# Altium footprint library SparkFun-IC-Amplifiers.PCBLIB: 14 footprints
Each footprint in its own frame and in the unit in brackets; x right, y up, seen from the top. Pads: shape width x height; smd on the part's side, far side on the other; paste and mask are expansions set on the pad; w line width, h text height; cw(c..) or ccw(c..) is an arc to the next point about the centre after c.
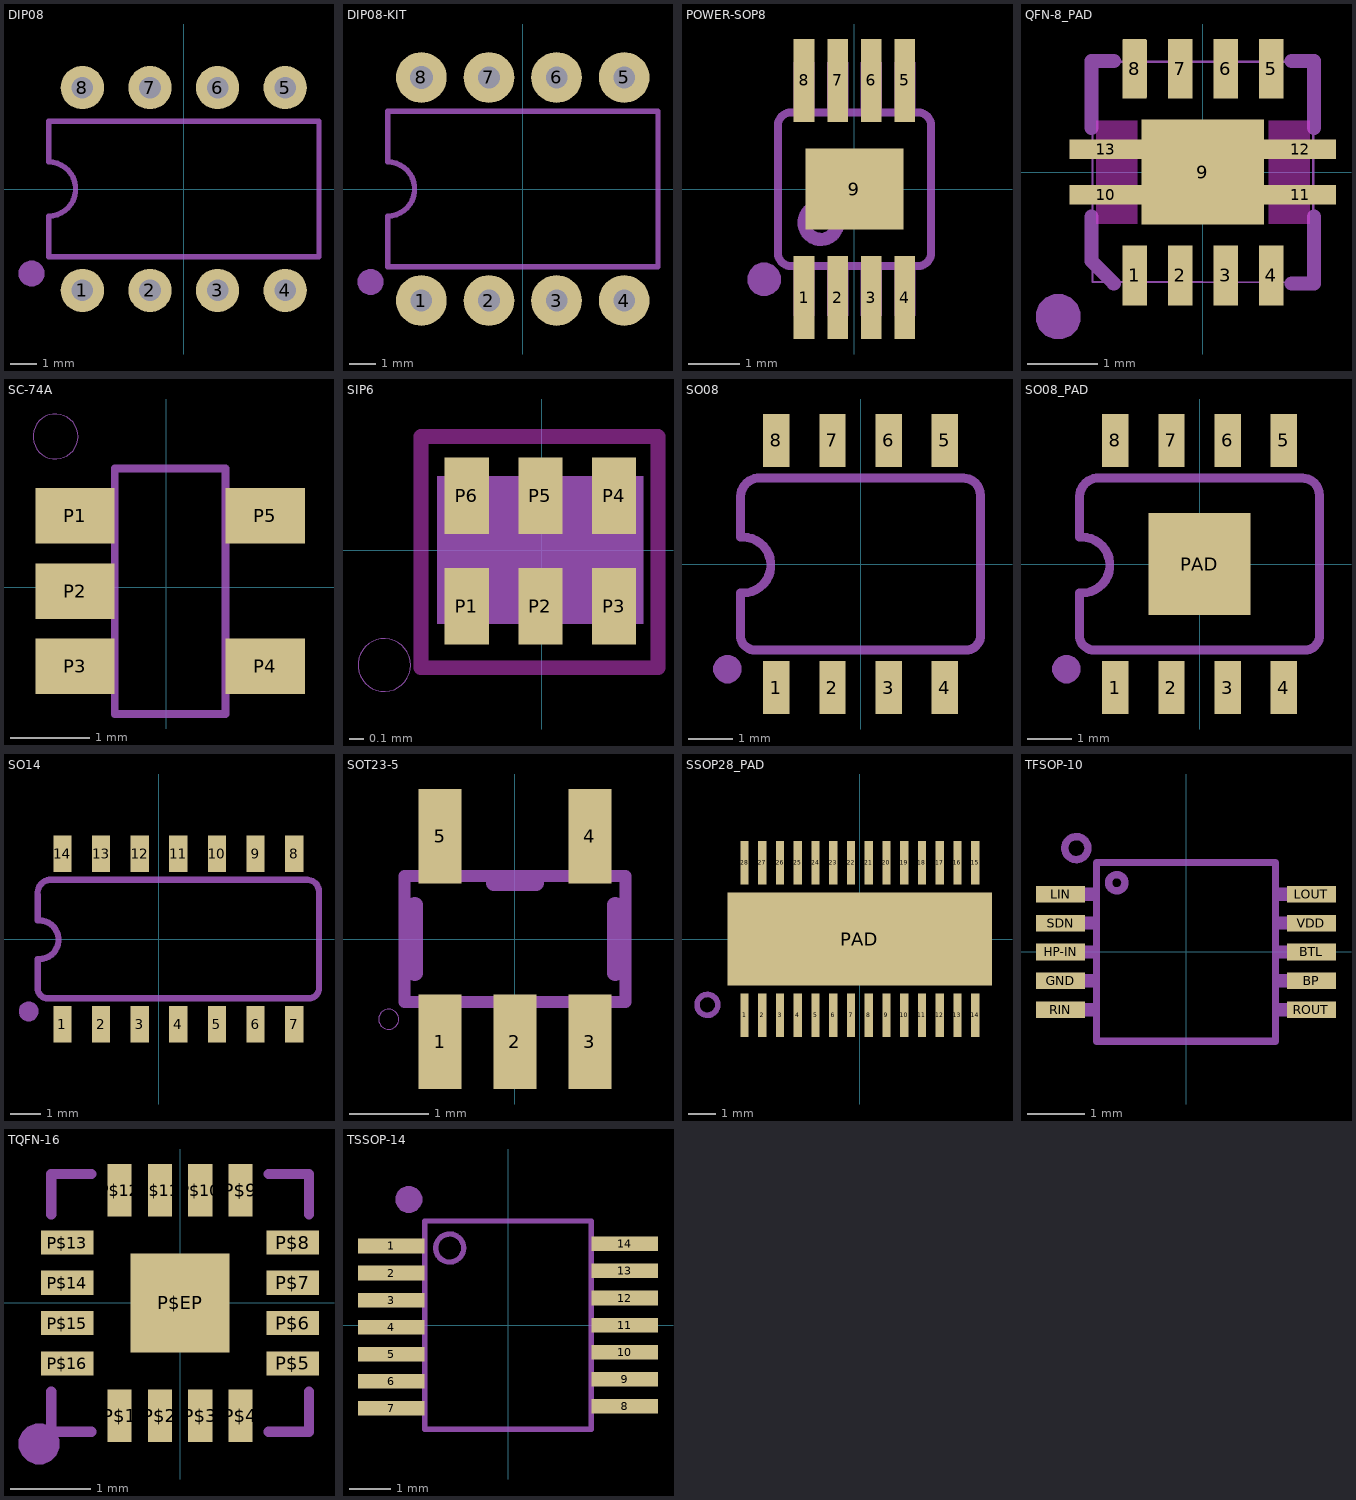
[diagram p0: the footprints below, top view; thin cyan lines are the x and y axes]

## DIP08 [mil]
pads (8):
  round 64 hole 32: 1(-150,-150) 2(-50,-150) 3(50,-150) 4(150,-150) 5(150,150) 6(50,150) 7(-50,150) 8(-150,150)
tPlace:
  region: -243.75,-125 -243.75,-121.27 -240.9,-114.38 -235.62,-109.1 -228.73,-106.25 -225,-106.25 -221.27,-106.25 -214.38,-109.1 -209.1,-114.38 -206.25,-121.27 -206.25,-125 -206.25,-128.73 -209.1,-135.62 -214.38,-140.9 -221.27,-143.75 -225,-143.75 -228.73,-143.75 -235.62,-140.9 -240.9,-135.62 -243.75,-128.73 -243.75,-125
  lines w8: -200,-100 200,-100 200,100 -200,100 -200,40 cw(c-200,0) -200,-40 -200,-100

## DIP08-KIT [mil]
pads (8):
  round 75 hole 32: 1(-150,-165) 2(-50,-165) 3(50,-165) 4(150,-165) 5(150,165) 6(50,165) 7(-50,165)
  round 75 hole 34: 8(-150,165)
Top Solder:
  circle w0: c-150,165 r17
  circle w0: c-50,165 r17
  circle w0: c50,165 r17
  circle w0: c150,165 r17
  circle w0: c-150,-165 r17
  circle w0: c-50,-165 r17
  circle w0: c50,-165 r17
  circle w0: c150,-165 r17
Bottom Solder:
  circle w0: c-150,165 r42
  circle w0: c-50,165 r42
  circle w0: c50,165 r42
  circle w0: c150,165 r42
  circle w0: c-150,-165 r42
  circle w0: c-50,-165 r42
  circle w0: c50,-165 r42
  circle w0: c150,-165 r42
tPlace:
  region: -243.75,-137.5 -243.75,-133.77 -240.9,-126.88 -235.62,-121.6 -228.73,-118.75 -225,-118.75 -221.27,-118.75 -214.38,-121.6 -209.1,-126.88 -206.25,-133.77 -206.25,-137.5 -206.25,-141.23 -209.1,-148.12 -214.38,-153.4 -221.27,-156.25 -225,-156.25 -228.73,-156.25 -235.62,-153.4 -240.9,-148.12 -243.75,-141.23 -243.75,-137.5
  lines w8: -200,-115 -200,-40 ccw(c-200,0) -200,40 -200,115 200,115 200,-115 -200,-115

## POWER-SOP8 [mm]
pads (9):
  rect 0.4x1.6 smd: 1(-0.975,-2.1) 2(-0.325,-2.1) 3(0.325,-2.1) 4(0.975,-2.1) 5(0.975,2.1) 6(0.325,2.1) 7(-0.325,2.1) 8(-0.975,2.1)
  rect 1.89x1.57 smd: 9(0,0)
tDocu:
  region: -1.175,-2.45 -1.175,-1.55 -0.775,-1.55 -0.775,-2.45
  region: -0.525,-2.45 -0.525,-1.55 -0.125,-1.55 -0.125,-2.45
  region: 0.125,-2.45 0.125,-1.55 0.525,-1.55 0.525,-2.45
  region: 0.775,-2.45 0.775,-1.55 1.175,-1.55 1.175,-2.45
  region: 0.775,1.55 0.775,2.45 1.175,2.45 1.175,1.55
  region: 0.125,1.55 0.125,2.45 0.525,2.45 0.525,1.55
  region: -0.525,1.55 -0.525,2.45 -0.125,2.45 -0.125,1.55
  region: -1.175,1.55 -1.175,2.45 -0.775,2.45 -0.775,1.55
tPlace:
  circle w0.254: c-0.65,-0.65 r0.325
  region: -1.429,-1.746 -1.429,-1.683 -1.477,-1.566 -1.566,-1.477 -1.683,-1.429 -1.746,-1.429 -1.809,-1.429 -1.926,-1.477 -2.015,-1.566 -2.064,-1.683 -2.064,-1.746 -2.064,-1.809 -2.015,-1.926 -1.926,-2.015 -1.809,-2.064 -1.746,-2.064 -1.683,-2.064 -1.566,-2.015 -1.477,-1.926 -1.429,-1.809 -1.429,-1.746
  lines w0.152: -1.48,-1.24 ccw(c-1.23,-1.24) -1.23,-1.49 ; -1.48,-1.23 -1.48,1.23 cw(c-1.23,1.23) -1.23,1.48 ; -1.22,-1.49 1.24,-1.49 ; -1.22,1.48 1.24,1.48 ; 1.23,-1.49 ccw(c1.23,-1.24) 1.48,-1.24 1.48,1.23 ccw(c1.23,1.23) 1.23,1.48

## QFN-8_PAD [mm]
pads (13):
  rect 0.35x0.85 smd: 1(-0.975,-1.475) 2(-0.325,-1.475) 3(0.325,-1.475) 4(0.975,-1.475) 5(0.975,1.475) 6(0.325,1.475) 7(-0.325,1.475)
  rrect10% 0.35x0.85 smd: 8(-0.975,1.475)
  rect 1.75x1.5 smd paste+0: 9(0,0)
  rect 1.025x0.28 smd paste+0 mask+0: 10(-1.388,-0.325) 11(1.388,-0.325) 12(1.388,0.325) 13(-1.388,0.325)
Top keep-out:
  region: -1.524,0.737 -0.94,0.737 -0.94,-0.737 -1.524,-0.737
  region: 0.94,0.737 1.524,0.737 1.524,-0.737 0.94,-0.737
Top Paste:
  region: 0.381,0.381 0.381,-0.381 -0.381,-0.381 -0.381,0.381
tDocu:
  lines w0.03: -1.575,-1.565 1.575,-1.575 1.575,1.575 -1.575,1.575 -1.575,-1.565
tPlace:
  region: -1.746,-2.064 -1.746,-2.001 -1.795,-1.884 -1.884,-1.795 -2.001,-1.746 -2.064,-1.746 -2.127,-1.746 -2.244,-1.795 -2.333,-1.884 -2.381,-2.001 -2.381,-2.064 -2.381,-2.127 -2.333,-2.244 -2.244,-2.333 -2.127,-2.381 -2.064,-2.381 -2.001,-2.381 -1.884,-2.333 -1.795,-2.244 -1.746,-2.127 -1.746,-2.064
  lines w0.203: -1.587,-0.635 -1.587,-1.27 -1.27,-1.587 ; -1.587,0.635 -1.587,1.587 -1.27,1.587 ; 1.27,-1.587 1.587,-1.587 1.587,-0.635 ; 1.27,1.587 1.587,1.587 1.587,0.635

## SC-74A [mm]
pads (5):
  rect 1x0.7 smd: P1(-1.151,0.903) P2(-1.151,-0.047) P3(-1.151,-0.997) P4(1.249,-0.997) P5(1.249,0.903)
tDocu:
  lines w0.1: -0.651,-1.597 0.749,-1.597 0.749,1.503 -0.651,1.503 -0.651,-1.597
tPlace:
  circle w0: c-1.397,1.905 r0.284

## SIP6 [mil]
pads (6):
  rect 11.81x20.47 smd paste+0 mask+0: P1(-20,-15) P2(-0.32,-15) P3(19.37,-15) P4(19.37,14.53) P5(-0.32,14.53) P6(-20,14.53)
Top keep-out:
  lines w3.94: -32.28,-31.5 31.1,-31.5 31.1,30.32 -32.28,30.32 -32.28,-31.5
Top Paste:
  region: -24.72,6.26 -24.72,23.58 -15.28,23.58 -15.28,6.26
  region: -5.04,6.26 -5.04,23.58 4.41,23.58 4.41,6.26
  region: 14.65,6.26 14.65,23.58 24.09,23.58 24.09,6.26
  region: -24.72,-23.66 -24.72,-6.34 -15.28,-6.34 -15.28,-23.66
  region: -5.04,-23.66 -5.04,-6.34 4.41,-6.34 4.41,-23.66
  region: 14.65,-23.66 14.65,-6.34 24.09,-6.34 24.09,-23.66
Top Solder:
  region: -27.87,-26.81 -27.87,-2.4 -12.13,-2.4 -12.13,-26.81
  region: -8.19,-26.81 -8.19,-2.4 7.56,-2.4 7.56,-26.81
  region: 11.5,-26.81 11.5,-2.4 27.24,-2.4 27.24,-26.81
  region: 11.5,1.54 11.5,25.94 27.24,25.94 27.24,1.54
  region: -8.19,1.54 -8.19,25.94 7.56,25.94 7.56,1.54
  region: -27.87,1.54 -27.87,25.94 -12.13,25.94 -12.13,1.54
tDocu:
  region: -27.95,-19.69 -27.95,19.69 27.17,19.69 27.17,-19.69
tPlace:
  circle w0: c-42.05,-30.75 r7.04

## SO08 [mm]
pads (8):
  rect 0.6x1.2 smd: 1(-1.905,-2.8) 2(-0.635,-2.8) 3(0.635,-2.8) 4(1.905,-2.8) 5(1.905,2.8) 6(0.635,2.8) 7(-0.635,2.8) 8(-1.905,2.8)
tDocu:
  region: -2.159,-3.302 -2.159,-2.273 -1.651,-2.273 -1.651,-3.302
  region: -0.889,-3.302 -0.889,-2.273 -0.381,-2.273 -0.381,-3.302
  region: 0.381,-3.302 0.381,-2.273 0.889,-2.273 0.889,-3.302
  region: 1.651,-3.302 1.651,-2.273 2.159,-2.273 2.159,-3.302
  region: -0.889,2.286 -0.889,3.302 -0.381,3.302 -0.381,2.286
  region: 0.381,2.286 0.381,3.302 0.889,3.302 0.889,2.286
  region: 1.651,2.286 1.651,3.302 2.159,3.302 2.159,2.286
  region: -2.159,2.286 -2.159,3.302 -1.651,3.302 -1.651,2.286
tPlace:
  region: -2.699,-2.381 -2.699,-2.318 -2.747,-2.201 -2.836,-2.112 -2.953,-2.064 -3.016,-2.064 -3.079,-2.064 -3.196,-2.112 -3.285,-2.201 -3.334,-2.318 -3.334,-2.381 -3.334,-2.444 -3.285,-2.561 -3.196,-2.65 -3.079,-2.699 -3.016,-2.699 -2.953,-2.699 -2.836,-2.65 -2.747,-2.561 -2.699,-2.444 -2.699,-2.381
  lines w0.203: -2.718,-0.66 -2.718,-1.665 ccw(c-2.387,-1.616) -2.337,-1.946 2.437,-1.946 ccw(c2.387,-1.615) 2.718,-1.565 2.718,1.565 ccw(c2.337,1.566) 2.337,1.946 -2.337,1.946 ccw(c-2.287,1.515) -2.718,1.465 ; -2.718,0.61 -2.718,1.453 ; -2.667,-0.66 ccw(c-2.667,-0.025) -2.667,0.61

## SO08_PAD [mil]
pads (9):
  rect 23.62x47.24 smd: 1(-75,-110.24) 2(-25,-110.24) 3(25,-110.24) 4(75,-110.24) 5(75,110.24) 6(25,110.24) 7(-25,110.24) 8(-75,110.24)
  rect 91x91 smd: PAD(0,0)
tDocu:
  region: -85,-130 -85,-89.5 -65,-89.5 -65,-130
  region: -35,-130 -35,-89.5 -15,-89.5 -15,-130
  region: 15,-130 15,-89.5 35,-89.5 35,-130
  region: 65,-130 65,-89.5 85,-89.5 85,-130
  region: -35,90 -35,130 -15,130 -15,90
  region: 15,90 15,130 35,130 35,90
  region: 65,90 65,130 85,130 85,90
  region: -85,90 -85,130 -65,130 -65,90
tPlace:
  region: -106.25,-93.75 -106.25,-91.26 -108.15,-86.67 -111.67,-83.15 -116.26,-81.25 -118.75,-81.25 -121.24,-81.25 -125.83,-83.15 -129.35,-86.67 -131.25,-91.26 -131.25,-93.75 -131.25,-96.24 -129.35,-100.83 -125.83,-104.35 -121.24,-106.25 -118.75,-106.25 -116.26,-106.25 -111.67,-104.35 -108.15,-100.83 -106.25,-96.24 -106.25,-93.75
  lines w8: -107,-26 -107,-65.56 ccw(c-93.97,-63.6) -92,-76.63 95.94,-76.63 ccw(c93.97,-63.6) 107,-61.63 107,61.63 ccw(c92,61.63) 92,76.63 -92,76.63 ccw(c-90.03,59.66) -107,57.69 ; -107,24 -107,57.19 ; -105,-26 ccw(c-105,-1) -105,24

## SO14 [mm]
pads (14):
  rect 0.6x1.2 smd: 1(-3.175,-2.8) 2(-1.905,-2.8) 3(-0.635,-2.8) 4(0.635,-2.8) 5(1.905,-2.8) 6(3.175,-2.8) 7(4.445,-2.8) 8(4.445,2.8) 9(3.175,2.8) 10(1.905,2.8) 11(0.635,2.8) 12(-0.635,2.8) 13(-1.905,2.8) 14(-3.175,2.8)
tDocu:
  region: -3.429,-3.302 -3.429,-2.273 -2.921,-2.273 -2.921,-3.302
  region: -2.159,-3.302 -2.159,-2.273 -1.651,-2.273 -1.651,-3.302
  region: -0.889,-3.302 -0.889,-2.273 -0.381,-2.273 -0.381,-3.302
  region: 0.381,-3.302 0.381,-2.273 0.889,-2.273 0.889,-3.302
  region: 1.651,-3.302 1.651,-2.273 2.159,-2.273 2.159,-3.302
  region: 2.921,-3.302 2.921,-2.273 3.429,-2.273 3.429,-3.302
  region: 4.191,-3.302 4.191,-2.273 4.699,-2.273 4.699,-3.302
  region: -2.159,2.286 -2.159,3.302 -1.651,3.302 -1.651,2.286
  region: -0.889,2.286 -0.889,3.302 -0.381,3.302 -0.381,2.286
  region: 0.381,2.286 0.381,3.302 0.889,3.302 0.889,2.286
  region: 1.651,2.286 1.651,3.302 2.159,3.302 2.159,2.286
  region: 2.921,2.286 2.921,3.302 3.429,3.302 3.429,2.286
  region: 4.191,2.286 4.191,3.302 4.699,3.302 4.699,2.286
  region: -3.429,2.286 -3.429,3.302 -2.921,3.302 -2.921,2.286
tPlace:
  region: -3.969,-2.381 -3.969,-2.318 -4.017,-2.201 -4.106,-2.112 -4.223,-2.064 -4.286,-2.064 -4.349,-2.064 -4.466,-2.112 -4.555,-2.201 -4.604,-2.318 -4.604,-2.381 -4.604,-2.444 -4.555,-2.561 -4.466,-2.65 -4.349,-2.699 -4.286,-2.699 -4.223,-2.699 -4.106,-2.65 -4.017,-2.561 -3.969,-2.444 -3.969,-2.381
  lines w0.203: -3.988,-0.66 -3.988,-1.665 ccw(c-3.657,-1.616) -3.607,-1.946 4.977,-1.946 ccw(c4.927,-1.615) 5.258,-1.565 5.258,1.565 ccw(c4.877,1.566) 4.877,1.946 -3.607,1.946 ccw(c-3.557,1.515) -3.988,1.465 ; -3.988,0.61 -3.988,1.453 ; -3.937,-0.66 ccw(c-3.937,-0.025) -3.937,0.61

## SOT23-5 [mm]
pads (5):
  rect 0.55x1.2 smd: 1(-0.95,-1.3) 2(0,-1.3) 3(0.95,-1.3) 4(0.95,1.3) 5(-0.95,1.3)
tDocu:
  region: -1.2,-1.5 -1.2,-0.85 -0.7,-0.85 -0.7,-1.5
  region: -0.25,-1.5 -0.25,-0.85 0.25,-0.85 0.25,-1.5
  region: 0.7,-1.5 0.7,-0.85 1.2,-0.85 1.2,-1.5
  region: 0.7,0.85 0.7,1.5 1.2,1.5 1.2,0.85
  region: -1.2,0.85 -1.2,1.5 -0.7,1.5 -0.7,0.85
  lines w0.152: -1.4,-0.8 1.4,-0.8 1.4,0.8 -1.4,0.8 -1.4,-0.8
tPlace:
  circle w0: c-1.6,-1.016 r0.127
  lines w0.203: -1.27,-0.43 -1.27,0.43 ; -0.268,0.709 0.268,0.709 ; 1.27,-0.43 1.27,0.43

## SSOP28_PAD [mm]
pads (29):
  rect 0.3x1.6 smd: 1(-4.225,-2.8) 2(-3.575,-2.8) 3(-2.925,-2.8) 4(-2.275,-2.8) 5(-1.625,-2.8) 6(-0.975,-2.8) 7(-0.325,-2.8) 8(0.325,-2.8) 9(0.975,-2.8) 10(1.625,-2.8) 11(2.275,-2.8) 12(2.925,-2.8) 13(3.575,-2.8) 14(4.225,-2.8) 15(4.225,2.8) 16(3.575,2.8) 17(2.925,2.8) 18(2.275,2.8) 19(1.625,2.8) 20(0.975,2.8) 21(0.325,2.8) 22(-0.325,2.8) 23(-0.975,2.8) 24(-1.625,2.8) 25(-2.275,2.8) 26(-2.925,2.8) 27(-3.575,2.8) 28(-4.225,2.8)
  rect 9.7x3.4 smd: PAD(0,0)
tPlace:
  circle w0.203: c-5.588,-2.413 r0.381

## TFSOP-10 [mm]
pads (10):
  rect 0.85x0.29 smd: BP(2.175,-0.5) BTL(2.175,0) GND(-2.175,-0.5) HP-IN(-2.175,0) LIN(-2.175,1) LOUT(2.175,1) RIN(-2.175,-1) ROUT(2.175,-1) SDN(-2.175,0.5) VDD(2.175,0.5)
tDocu:
  region: -2.55,-0.11 -2.55,0.11 -1.6,0.11 -1.6,-0.11
  region: -2.55,0.89 -2.55,1.11 -1.6,1.11 -1.6,0.89
  region: -2.55,0.39 -2.55,0.61 -1.6,0.61 -1.6,0.39
  region: -2.55,-0.61 -2.55,-0.39 -1.6,-0.39 -1.6,-0.61
  region: -2.55,-1.11 -2.55,-0.89 -1.6,-0.89 -1.6,-1.11
  region: 2.55,1.11 2.55,0.89 1.6,0.89 1.6,1.11
  region: 2.55,0.61 2.55,0.39 1.6,0.39 1.6,0.61
  region: 2.55,0.11 2.55,-0.11 1.6,-0.11 1.6,0.11
  region: 2.55,-0.39 2.55,-0.61 1.6,-0.61 1.6,-0.39
  region: 2.55,-0.89 2.55,-1.11 1.6,-1.11 1.6,-0.89
tPlace:
  circle w0.127: c-1.2,1.2 r0.141
  circle w0.127: c-1.9,1.8 r0.2
  lines w0.127: -1.55,-1.55 1.55,-1.55 1.55,1.55 -1.55,1.55 -1.55,-1.55

## TQFN-16 [mm]
pads (17):
  rect 0.3x0.65 smd paste+0: P$1(-0.75,-1.4) P$2(-0.25,-1.4) P$3(0.25,-1.4) P$4(0.75,-1.4) P$9(0.75,1.4) P$10(0.25,1.4) P$11(-0.25,1.4) P$12(-0.75,1.4)
  rect 0.65x0.3 smd paste+0: P$5(1.4,-0.75) P$6(1.4,-0.25) P$7(1.4,0.25) P$8(1.4,0.75) P$13(-1.4,0.75) P$14(-1.4,0.25) P$15(-1.4,-0.25) P$16(-1.4,-0.75)
  rect 1.23x1.23 smd paste+0: P$EP(0,0)
Top Paste:
  region: -0.381,-0.381 -0.381,0.381 0.381,0.381 0.381,-0.381
  region: -1.6,0.62 -1.6,0.88 -1.15,0.88 -1.15,0.62
  region: -1.6,0.12 -1.6,0.38 -1.15,0.38 -1.15,0.12
  region: -1.6,-0.38 -1.6,-0.12 -1.15,-0.12 -1.15,-0.38
  region: -1.6,-0.88 -1.6,-0.62 -1.15,-0.62 -1.15,-0.88
  region: 1.15,0.62 1.15,0.88 1.6,0.88 1.6,0.62
  region: 1.15,0.12 1.15,0.38 1.6,0.38 1.6,0.12
  region: 1.15,-0.88 1.15,-0.62 1.6,-0.62 1.6,-0.88
  region: 1.15,-0.38 1.15,-0.12 1.6,-0.12 1.6,-0.38
  region: -0.62,-1.6 -0.88,-1.6 -0.88,-1.15 -0.62,-1.15
  region: 0.38,-1.6 0.12,-1.6 0.12,-1.15 0.38,-1.15
  region: -0.12,-1.6 -0.38,-1.6 -0.38,-1.15 -0.12,-1.15
  region: 0.88,-1.6 0.62,-1.6 0.62,-1.15 0.88,-1.15
  region: -0.12,1.15 -0.38,1.15 -0.38,1.6 -0.12,1.6
  region: 0.88,1.15 0.62,1.15 0.62,1.6 0.88,1.6
  region: 0.12,1.6 0.38,1.6 0.38,1.15 0.12,1.15
  region: -0.88,1.6 -0.62,1.6 -0.62,1.15 -0.88,1.15
tDocu:
  region: 1.1,0.125 1.1,0.375 1.5,0.375 1.5,0.125
  region: 1.1,0.625 1.1,0.875 1.5,0.875 1.5,0.625
  region: 1.1,-0.375 1.1,-0.125 1.5,-0.125 1.5,-0.375
  region: 1.1,-0.875 1.1,-0.625 1.5,-0.625 1.5,-0.875
  region: 0.875,1.1 0.625,1.1 0.625,1.5 0.875,1.5
  region: 0.375,1.1 0.125,1.1 0.125,1.5 0.375,1.5
  region: -0.125,1.1 -0.375,1.1 -0.375,1.5 -0.125,1.5
  region: -0.625,1.1 -0.875,1.1 -0.875,1.5 -0.625,1.5
  region: -1.1,0.875 -1.1,0.625 -1.5,0.625 -1.5,0.875
  region: -1.1,0.375 -1.1,0.125 -1.5,0.125 -1.5,0.375
  region: -1.1,-0.125 -1.1,-0.375 -1.5,-0.375 -1.5,-0.125
  region: -1.1,-0.625 -1.1,-0.875 -1.5,-0.875 -1.5,-0.625
  region: -0.875,-1.1 -0.625,-1.1 -0.625,-1.5 -0.875,-1.5
  region: -0.375,-1.1 -0.125,-1.1 -0.125,-1.5 -0.375,-1.5
  region: 0.125,-1.1 0.375,-1.1 0.375,-1.5 0.125,-1.5
  region: 0.625,-1.1 0.875,-1.1 0.875,-1.5 0.625,-1.5
tPlace:
  region: -1.5,-1.75 -1.5,-1.8 -1.538,-1.892 -1.608,-1.962 -1.7,-2 -1.75,-2 -1.8,-2 -1.892,-1.962 -1.962,-1.892 -2,-1.8 -2,-1.75 -2,-1.7 -1.962,-1.608 -1.892,-1.538 -1.8,-1.5 -1.75,-1.5 -1.7,-1.5 -1.608,-1.538 -1.538,-1.608 -1.5,-1.7 -1.5,-1.75
  lines w0.127: -1.6,-1.1 -1.6,-1.6 -1.1,-1.6 ; -1.6,1.1 -1.6,1.6 -1.1,1.6 ; 1.1,-1.6 1.6,-1.6 1.6,-1.1 ; 1.1,1.6 1.6,1.6 1.6,1.1

## TSSOP-14 [mm]
pads (14):
  rect 1.6x0.35 smd: 1(-2.8,1.9) 2(-2.8,1.25) 3(-2.8,0.6) 4(-2.8,-0.05) 5(-2.8,-0.7) 6(-2.8,-1.35) 7(-2.8,-2) 8(2.8,-1.95) 9(2.8,-1.3) 10(2.8,-0.65) 11(2.8,0) 12(2.8,0.65) 13(2.8,1.3) 14(2.8,1.95)
tPlace:
  circle w0.127: c-1.4,1.85 r0.336
  region: -2.381,2.699 -2.318,2.699 -2.201,2.747 -2.112,2.836 -2.064,2.953 -2.064,3.016 -2.064,3.079 -2.112,3.196 -2.201,3.285 -2.318,3.334 -2.381,3.334 -2.444,3.334 -2.561,3.285 -2.65,3.196 -2.699,3.079 -2.699,3.016 -2.699,2.953 -2.65,2.836 -2.561,2.747 -2.444,2.699 -2.381,2.699
  lines w0.127: -2,-2.5 -2,2.5 2,2.5 2,-2.5 -2,-2.5